# Altium footprint library TH Relays.PcbLib: 4 footprints
Each footprint in its own frame and in the unit in brackets; x right, y up, seen from the top. Pads: shape width x height; smd on the part's side, far side on the other; paste and mask are expansions set on the pad; w line width, h text height; cw(c..) or ccw(c..) is an arc to the next point about the centre after c.
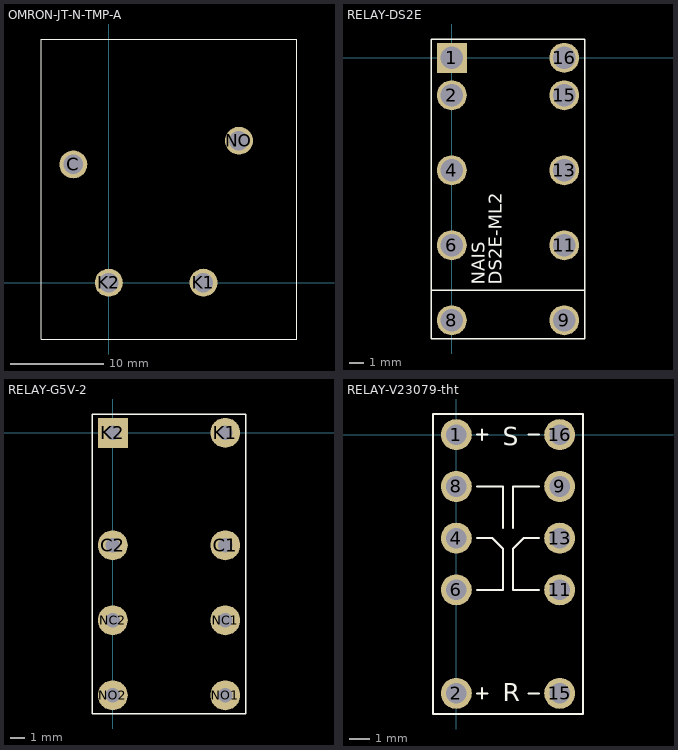
[diagram p0: the footprints below, top view; thin cyan lines are the x and y axes]

## OMRON-JT-N-TMP-A [mm] "OMRON POWER RELAY FASTON SPST"
pads (4):
  round 3 hole 2.1 mask+0.051: C(-3.81,12.7) K1(10.16,0) K2(0,0) NO(13.97,15.24)
Top Overlay:
  lines w0.025: -7.239,-6.045 20.168,-6.045 20.168,26.162 -7.239,26.162 -7.239,-6.045
3D body: height 25.4, standoff 22.86, extent 10.274,14.834 14.414,15.723
3D body: height 25.4, standoff 22.86, extent -4.661,12.268 -0.521,13.157
3D body: height 27.84, standoff 22.86, extent -7.239,-0.711 20.168,26.162
3D body: height 24.13, standoff 0, extent -7.239,-6.045 20.168,26.162

## RELAY-DS2E [mil]
pads (10):
  rect 80x80 hole 60: 1(0,0)
  round 80 hole 60: 2(0,-100) 4(0,-300) 6(0,-500) 8(0,-700) 9(300,-700) 11(300,-500) 13(300,-300) 15(300,-100) 16(300,0)
Top Overlay:
  lines w4: -55,-620 353,-620 ; 175,50 355,50 355,-750 -55,-750 -55,50 178,50
  text "DS2E-ML2" at 133,-606 h35
  text "NAIS" at 88,-606 h35

## RELAY-G5V-2 [mil]
pads (8):
  round 80 hole 39.37: C1(300,-300) C2(0,-300) K1(300,0) NC1(300,-500) NC2(0,-500) NO1(300,-700) NO2(0,-700)
  rect 80x80 hole 39.37: K2(0,0)
Top Overlay:
  lines w4: 175,50 355,50 355,-750 -55,-750 -55,50 178,50
3D body: height 150, standoff -100, extent 292.5,-512.49 307.5,-487.49
3D body: height 150, standoff -100, extent 292.5,-312.49 307.5,-287.49
3D body: height 150, standoff -100, extent 292.5,-712.49 307.5,-687.49
3D body: height 390.16, standoff 389.76, extent 292.5,-314.99 307.5,-284.99
3D body: height 390.16, standoff 389.76, extent 292.5,-514.99 307.5,-484.99
3D body: height 390.16, standoff 389.76, extent 292.5,-714.99 307.5,-684.99
3D body: height 390.16, standoff 389.76, extent 300,-305 340,-295
3D body: height 390.16, standoff 389.76, extent 330,-605 340,-305
3D body: height 390.16, standoff 389.76, extent 245,-505 300,-495
3D body: height 390.16, standoff 389.76, extent 240,-705 300,-695
3D body: height 390.16, standoff 389.76, extent 230,-705 240,-635
3D body: height 390.16, standoff 389.76, extent 235,-565 245,-495
3D body: height 390.16, standoff 389.76, extent 266.46,-604.99 330,-594.99
3D body: height 390.16, standoff 389.76, extent 223.96,-603.53 273.53,-553.96
3D body: height 390.16, standoff 389.76, extent 26.47,-603.54 76.04,-553.97
3D body: height 390.16, standoff 389.76, extent -30,-605 33.54,-595
3D body: height 390.16, standoff 389.76, extent 55,-565 65,-495
3D body: height 390.16, standoff 389.76, extent 60,-705 70,-635
3D body: height 390.16, standoff 389.76, extent 0,-705 60,-695
3D body: height 390.16, standoff 389.76, extent 0,-505 55,-495
3D body: height 390.16, standoff 389.76, extent -40,-605 -30,-305
3D body: height 390.16, standoff 389.76, extent -40,-305 0,-295
3D body: height 390.16, standoff 389.76, extent 292.5,-315 307.5,-285
3D body: height 390.16, standoff 389.76, extent 292.5,-515 307.5,-485
3D body: height 390.16, standoff 389.76, extent 292.5,-715 307.5,-685
3D body: height 390.16, standoff 389.76, extent -7.5,-715 7.5,-685
3D body: height 390.16, standoff 389.76, extent -7.5,-515 7.5,-485
3D body: height 390.16, standoff 389.76, extent -7.5,-315 7.5,-285
3D body: height 390.16, standoff 389.76, extent 265,-125 270,-110
3D body: height 390.16, standoff 389.76, extent 295,-140 330,-115
3D body: height 390.16, standoff 389.76, extent 295,-175 330,-150
3D body: height 390.16, standoff 389.76, extent 295,-105 330,-80
3D body: height 390.16, standoff 389.76, extent 295,-70 330,-45
3D body: height 390.16, standoff 389.76, extent 295,-35 330,-10
3D body: height 390.16, standoff 389.76, extent 250,-160 285,-135
3D body: height 390.16, standoff 389.76, extent 250,-105 285,-80
3D body: height 150, standoff -100, extent 292.5,-12.5 307.5,12.5
3D body: height 150, standoff -100, extent 292.5,-312.5 307.5,-287.5
3D body: height 150, standoff -100, extent 292.5,-512.5 307.5,-487.5
3D body: height 150, standoff -100, extent 292.5,-712.5 307.5,-687.5
3D body: height 150, standoff -100, extent -7.5,-712.5 7.5,-687.5
3D body: height 150, standoff -100, extent -7.5,-12.5 7.5,12.5
3D body: height 150, standoff -100, extent -7.5,-312.5 7.5,-287.5
3D body: height 350.39, standoff 23.62, extent -55,-750 355,50
3D body: height 150, standoff -100, extent -7.5,-512.5 7.5,-487.5
3D body: height 390.16, standoff 389.76, extent -55,-205 355,-195
3D body: height 390.16, standoff 389.76, extent 250,-35 285,-10
3D body: height 390.16, standoff 389.76, extent 250,-70 285,-45
3D body: height 389.76, standoff 350.39, extent -55,-750 355,50

## RELAY-V23079-tht [mil]
pads (10):
  round 60 hole 40: 1(0,0) 2(0,-500) 4(0,-200) 6(0,-300) 8(0,-100) 9(200,-100) 11(200,-300) 13(200,-200) 15(200,-500) 16(200,0)
Top Overlay:
  lines w4: 40,-500 60,-500 ; 40,-300 90,-300 90,-220 70,-200 55,-200 40,-200 ; 40,-100 90,-100 90,-180 ; 40,0 60,0 ; 50,-510 50,-500 50,-490 ; 50,-10 50,0 50,10 ; 110,-180 110,-100 160,-100 ; 140,-500 160,-500 ; 140,0 160,0 ; 160,-300 110,-300 110,-220 130,-200 145,-200 160,-200 ; -45,-540 245,-540 245,40 200,40 0,40 -45,40 -45,-540
  text "R" at 90,-515 h35
  text "S" at 90,-20 h35